# Altium footprint library Footprints.PcbLib: 43 footprints (part 1 of 3)
Each footprint in its own frame and in the unit in brackets; x right, y up, seen from the top. Pads: shape width x height; smd on the part's side, far side on the other; paste and mask are expansions set on the pad; w line width, h text height; cw(c..) or ccw(c..) is an arc to the next point about the centre after c.
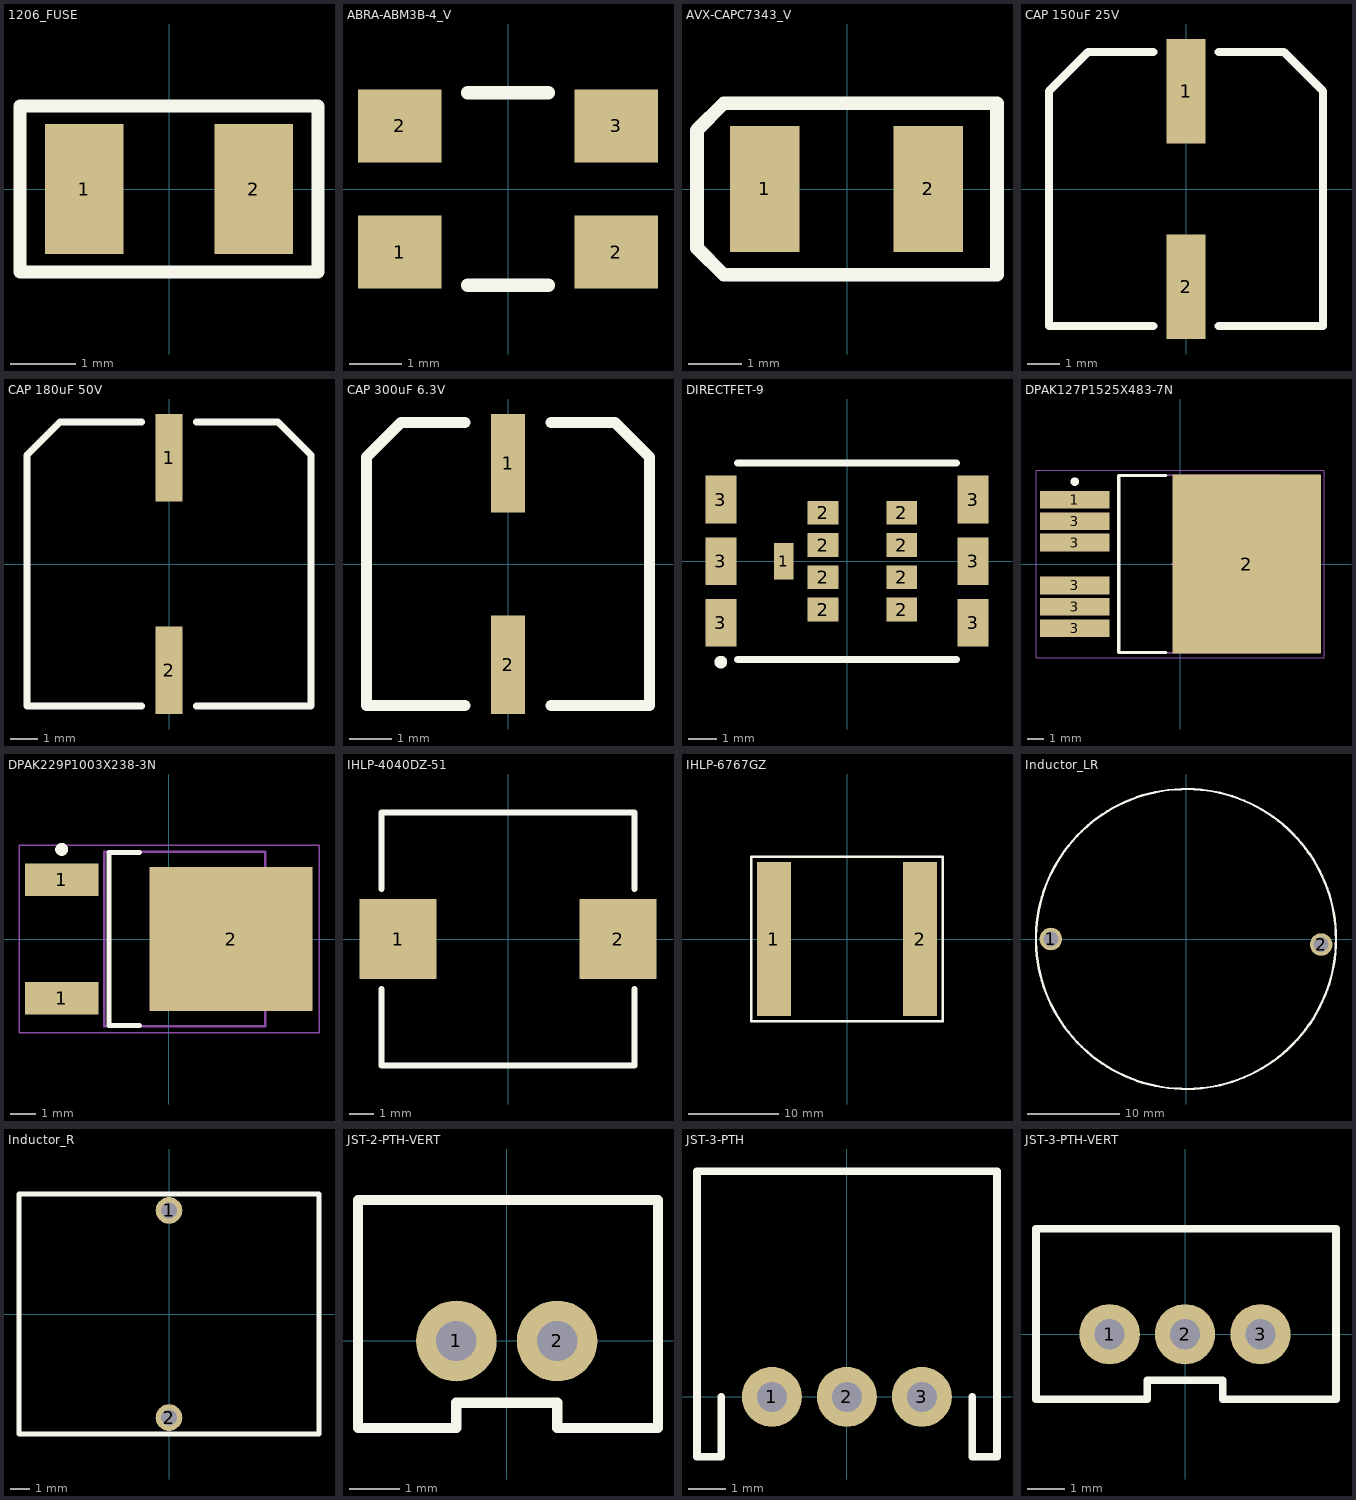
[diagram p0: the footprints below, top view; thin cyan lines are the x and y axes]

## 1206_FUSE [mm]
pads (2):
  rect 1.2x2 smd: 1(-1.3,0) 2(1.3,0)
Top Overlay:
  lines w0.2: -2.286,-1.27 2.286,-1.27 2.286,1.27 -2.286,1.27 -2.286,0.708 -2.286,0.094 -2.286,-0.214 -2.286,-1.27
3D body: height 0.75, standoff 0, extent -1.55,-0.9 1.575,0.925

## ABRA-ABM3B-4_V [mil] "SMT Crystal, 4-Leads, Body 5.2x3.4mm"
pads (4):
  rect 63x55 smd: 1(-81.5,-47.5) 2(-81.5,47.5) 2(81.5,-47.5) 3(81.5,47.5)
Top Overlay:
  lines w10: -30.5,-72.5 30.5,-72.5 ; -30.5,72.5 30.5,72.5
3D body: height 19.68, standoff 0, extent 62.19,-52.22 97.74,-26.01
3D body: height 19.68, standoff 0, extent -103.01,-51.67 -67.46,-25.46
3D body: height 19.68, standoff 0, extent 67.17,24.91 102.72,51.12
3D body: height 19.68, standoff 0, extent -97.83,24.91 -62.28,51.12
3D body: height 39.37, standoff 0, extent -114.46,-46.87 113.11,46.73

## AVX-CAPC7343_V [mm] "SMT Capacitor, 2 Leads, Body 7.3x4.3mm"
pads (2):
  rect 1.3x2.35 smd: 1(-1.535,0.001) 2(1.515,0.001)
Top Overlay:
  lines w0.254: -2.8,-1.1 -2.8,1.1 -2.299,1.601 2.8,1.597 2.8,-1.6 -2.3,-1.6 -2.8,-1.1
3D body: height 1.9, standoff 0, extent -2.1,-1.1 2.1,1.1

## CAP 150uF 25V [mm]
pads (2):
  rect 1.2x3.2 smd: 1(0,3) 2(0,-3)
Top Overlay:
  lines w0.254: -1,-4.2 -4.2,-4.2 -4.2,3 -3,4.2 -1,4.2 ; 1,-4.2 4.2,-4.2 4.2,3 3,4.2 1,4.2
3D body "CAPAE-D8.0x10.2.stp": height 10.5, standoff 0, extent -4.25,-5 4.25,5

## CAP 180uF 50V [mm]
pads (2):
  rect 1x3.2 smd: 1(0,3.9) 2(0,-3.9)
Top Overlay:
  lines w0.254: -1,-5.2 -5.2,-5.2 -5.2,4 -4,5.2 -1,5.2 ; 1,-5.2 5.2,-5.2 5.2,4 4,5.2 1,5.2
3D body "NICHICON_UWT1H221MNL1GS.STEP": height 10.2, standoff 0, extent -5.2,-5.451 5.1,5.449

## CAP 300uF 6.3V [mm]
pads (2):
  rect 0.8x2.3 smd: 1(0,2.35) 2(0,-2.35)
Top Overlay:
  lines w0.254: -1,-3.3 -3.3,-3.3 -3.3,2.5 -2.5,3.3 -1,3.3 ; 1,-3.3 3.3,-3.3 3.3,2.5 2.5,3.3 1,3.3
3D body "CAPAE-D6.3x5.4.stp": height 5.5, standoff 0, extent -3.4,-3.9 3.4,3.9

## DIRECTFET-9 [mm]
pads (15):
  rect 0.7x1.3 smd: 1(-2.25,0)
  rect 1.1x0.85 smd: 2(-0.85,-1.725) 2(-0.85,-0.575) 2(-0.85,0.575) 2(-0.85,1.725) 2(1.95,-1.725) 2(1.95,-0.575) 2(1.95,0.575) 2(1.95,1.725)
  rect 1.1x1.7 smd: 3(-4.5,-2.2) 3(-4.5,0) 3(-4.5,2.2) 3(4.5,-2.2) 3(4.5,0) 3(4.5,2.2)
Top Overlay:
  circle w0.254: c-4.5,-3.6 r0.1
  lines w0.254: -3.9,-3.5 3.9,-3.5 ; -3.9,3.5 3.9,3.5
3D body "User Library-DirectFET-L8_AUIRF7669L2.step": height 0.83, standoff 0, extent -4.575,-3.55 4.575,3.55

## DPAK127P1525X483-7N [mm] "D2-PAK, 7-Pads, Body 7.93x8.63mm (max), IPC Medium Density"
height 4.83
pads (7):
  rect 4.15x1.05 smd mask+0.051: 1(-6.25,3.81) 3(-6.25,-3.81) 3(-6.25,-2.54) 3(-6.25,-1.27) 3(-6.25,1.27) 3(-6.25,2.54)
  rect 8.8x10.6 smd: 2(3.95,0)
Top Overlay:
  circle w0.25: c-6.25,4.885 r0.125
  lines w0.2: -0.85,-5.25 -3.65,-5.25 -3.65,5.25 -0.85,5.25
Mechanical 13:
  lines w0.1: -3.65,-5.275 6,-5.275 6,5.275 -3.65,5.275 -3.65,-5.275
Mechanical 15:
  lines w0.05: -8.55,-5.55 8.55,-5.55 8.55,5.55 -8.55,5.55 -8.55,-5.55
  lines w0.1: -0.5,0 0.5,0 ; 0,-0.5 0,0.5
3D body "IRF-S4010 7PPbF.stp": height 4.2, standoff 0, extent -7.004,-5 8,5

## DPAK229P1003X238-3N [mm] "D-PAK, 3-Pads, Body 6.21x6.73mm (max), IPC Medium Density"
height 2.38
pads (3):
  rect 2.85x1.25 smd: 1(-4.15,-2.29) 1(-4.15,2.29)
  rect 6.3x5.55 smd: 2(2.4,0)
Top Overlay:
  circle w0.25: c-4.15,3.465 r0.125
  lines w0.2: -1.15,-3.35 -2.325,-3.35 -2.325,3.35 -1.15,3.35
Mechanical 13:
  lines w0.1: -2.5,-3.375 3.72,-3.375 3.72,3.375 -2.5,3.375 -2.5,-3.375
Mechanical 15:
  lines w0.05: -5.8,-3.625 5.8,-3.625 5.8,3.625 -5.8,3.625 -5.8,-3.625
  lines w0.1: -0.5,0 0.5,0 ; 0,-0.5 0,0.5

## IHLP-4040DZ-51 [mil]
pads (2):
  rect 123x128 smd: 1(-176,0) 2(176,0)
Top Overlay:
  lines w10: -202.5,-80 -202.5,-202.5 202.5,-202.5 202.5,-80 ; -202.5,80 -202.5,202.5 202.5,202.5 202.5,80
3D body: height 157.48, standoff 0, extent -200,-200 200,200

## IHLP-6767GZ [mil]
pads (2):
  rect 150x675 smd: 1(-320,0) 2(320,0)
Top Overlay:
  lines w10: -420,-360 -420,167.5 -420,360 420,360 420,-360 -420,-360
3D body: height 196.85, standoff 0, extent -330.71,-330.71 330.71,330.71

## Inductor_LR [mm]
pads (2):
  round 2.43 hole 1.63: 1(-14.6,0) 2(14.6,-0.6)
Top Overlay:
  circle w0.254: c0,0 r16.2

## Inductor_R [mm]
pads (2):
  round 1.38 hole 0.83: 1(0,5.35) 2(0,-5.35)
Top Overlay:
  lines w0.254: -7.75,-6.2 -7.75,6.2 7.75,6.2 7.75,-6.2 -7.75,-6.2

## JST-2-PTH-VERT [mm]
pads (2):
  round 1.6 hole 0.8: 1(-1,0) 2(1,0)
Top Overlay:
  lines w0.203: -2.95,-1.723 -1,-1.723 -1,-1.223 1,-1.223 1,-1.723 3,-1.723 3,2.794 -2.95,2.794 -2.95,-1.723
3D body "B2B-PH-K-S.STEP": height 6, standoff -3.4, extent -2.892,-1.622 3.008,2.878

## JST-3-PTH [mil]
pads (3):
  round 63 hole 31.5: 1(-78.74,0) 2(0,0) 3(78.74,0)
Top Overlay:
  lines w8: -157.48,237 -157.48,-62.99 -131.89,-62.99 -131.89,0 ; -157.22,237 157.74,237 157.74,-62.99 131.74,-62.99 131.74,0

## JST-3-PTH-VERT [mil]
pads (3):
  round 63 hole 31.5: 1(-78.74,0) 2(0,0) 3(78.74,0)
Top Overlay:
  lines w7.99: -155.51,-67.84 -39.37,-67.84
  lines w8: -155.51,-67.84 -155.51,110 157.48,110 157.48,-67.84 39.37,-67.84 39.37,-48.16 -39.37,-48.16 -39.37,-67.84
3D body "B3B-PH-K-S.STEP": height 236.22, standoff -133.86, extent -154.52,-66.92 156.5,110.24